# Altium schematic symbol library LPS_.SchLib: 92 symbols
Pins are listed as number, name and electrical type; pins without a type are passive.

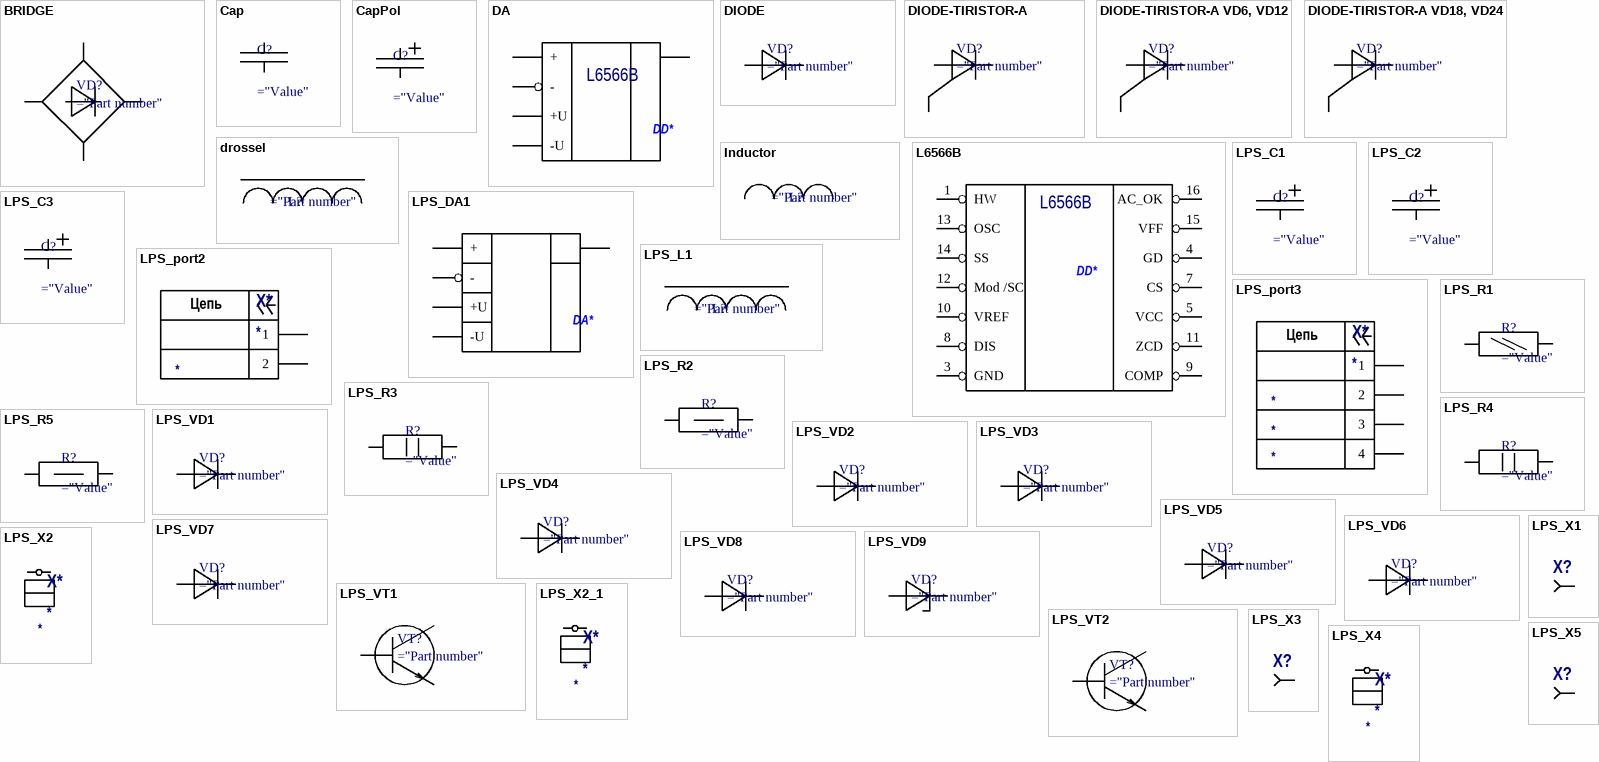
[diagram p0: symbols BRIDGE to LPS_X5]

## BRIDGE
designator VD?
footprint diode_bridge_800V_25A (DFB2580)
pins: A, AC1, AC2, C
1 alternate drawing of the same symbol

## Cap
designator C?
pins: 1, 2

## CapPol
designator C?
pins: 1, 2

## DA
designator DD*  (value not drawn)
footprint SOIC127P600X175-16N
pins: 1 +, 2 -, 3 +U, 4 -U, 5
text: L6566B

## DIODE
designator VD?
pins: A, C

## DIODE-TIRISTOR-A
designator VD?
pins: A, C, UE

## DIODE-TIRISTOR-A VD6, VD12
designator VD?
footprint VD 1.24 V adjustable shunt voltage reference (TS3431AILT - STMicroelectronics)
pins: A, C, UE

## DIODE-TIRISTOR-A VD18, VD24
designator VD?
footprint Shunt Voltage Reference 2.5 (TL431AIDBZT - Texas Instruments)
pins: A, C, UE

## drossel
designator L?
footprint Inductor 1.0mH 2.5 A 10% (PM2120-102K-RC)
pins: 1, 2
1 alternate drawing of the same symbol

## Inductor
designator L?
footprint Inductor 1.0mH 2.5 A 10% (PM2120-102K-RC)
pins: 1, 2
1 alternate drawing of the same symbol

## L6566B
designator DD*  (value not drawn)
footprint SOIC127P600X175-16N
pins: 1 HW, 3 GND, 4 GD, 5 VCC, 7 CS, 8 DIS, 9 COMP, 10 VREF, 11 ZCD, 12 Mod /SC, 13 OSC, 14 SS, 15 VFF, 16 AC_OK

## LPS_C1
designator C?
footprint LPS_C1
pins: 1, 2

## LPS_C2
designator C?
footprint LPS_C2 (27ucappr-3.5_8.5h12)
pins: 1, 2

## LPS_C3
designator C?
footprint LPS_C3 (4.7mcappr-5_13.5h22)
pins: 1, 2

## LPS_DA1
designator DA*  (value not drawn)
footprint LPS_DA1 (КР104УД708)
pins: 3 +U, 4 -, 5 +, 9 -U, 10

## LPS_L1
designator L?
pins: 1, 2
1 alternate drawing of the same symbol

## LPS_port2
designator X*
Comment2: *
footprint connector2_PCV_1000V_76A (PCV 6-16/ 2-G1F-10,16 (PN 1998865))
pins: 1, 2
text: Цепь

## LPS_port3
designator X*
Parameter 2: *; Parameter 1: *; Comment2: *
footprint TerminalBlock_4
pins: 1, 2, 3, 4
text: Цепь

## LPS_R1
designator R?
signal-integrity model Res
footprint LPS_R1 (С2-33Р-0,125)
pins: 1, 2

## LPS_R2
designator R?
signal-integrity model Res
footprint LPS_R2_R5 (S2-33N-05)
pins: 1, 2

## LPS_R3
designator R?
signal-integrity model Res
footprint LPS_R3_R4 (S2-33N-2)
pins: 1, 2

## LPS_R4
designator R?
signal-integrity model Res
footprint LPS_R3_R4 (S2-33N-2)
pins: 1, 2

## LPS_R5
designator R?
signal-integrity model Res
footprint LPS_R2_R5 (S2-33N-05)
pins: 1, 2

## LPS_VD1
designator VD?
footprint LPS_VD1-VD4
pins: 1, 2

## LPS_VD2
designator VD?
footprint LPS_VD1-VD4
pins: 1, 2

## LPS_VD3
designator VD?
footprint LPS_VD1-VD4
pins: 1, 2

## LPS_VD4
designator VD?
footprint LPS_VD1-VD4
pins: 1, 2

## LPS_VD5
designator VD?
footprint LPS_VD5-VD8
pins: 1, 2

## LPS_VD6
designator VD?
footprint LPS_VD5-VD8
pins: 1, 2

## LPS_VD7
designator VD?
footprint LPS_VD5-VD8
pins: 1, 2

## LPS_VD8
designator VD?
footprint LPS_VD5-VD8
pins: 1, 2

## LPS_VD9
designator VD?
footprint LPS_VD9
pins: 1, 2

## LPS_VT1
designator VT?
footprint LPS_VT1
pins: 1, 2, 3

## LPS_VT2
designator VT?
footprint LPS_VT2
pins: 1, 2, 3

## LPS_X1
designator X?  (value not drawn)
pins: 1

## LPS_X2
designator X*
Parameter 1: *
footprint TerminalBlock_2
pins: 1, 2

## LPS_X2_1
designator X*
Parameter 1: *
footprint connector2_PCV_1000V_76A (PCV 6-16/ 2-G1F-10,16 (PN 1998865))
pins: 1, 2, 3, 4

## LPS_X3
designator X?  (value not drawn)
pins: 1

## LPS_X4
designator X*
Parameter 1: *
footprint TerminalBlock_2
pins: 1, 2

## LPS_X5
designator X?  (value not drawn)
pins: 1

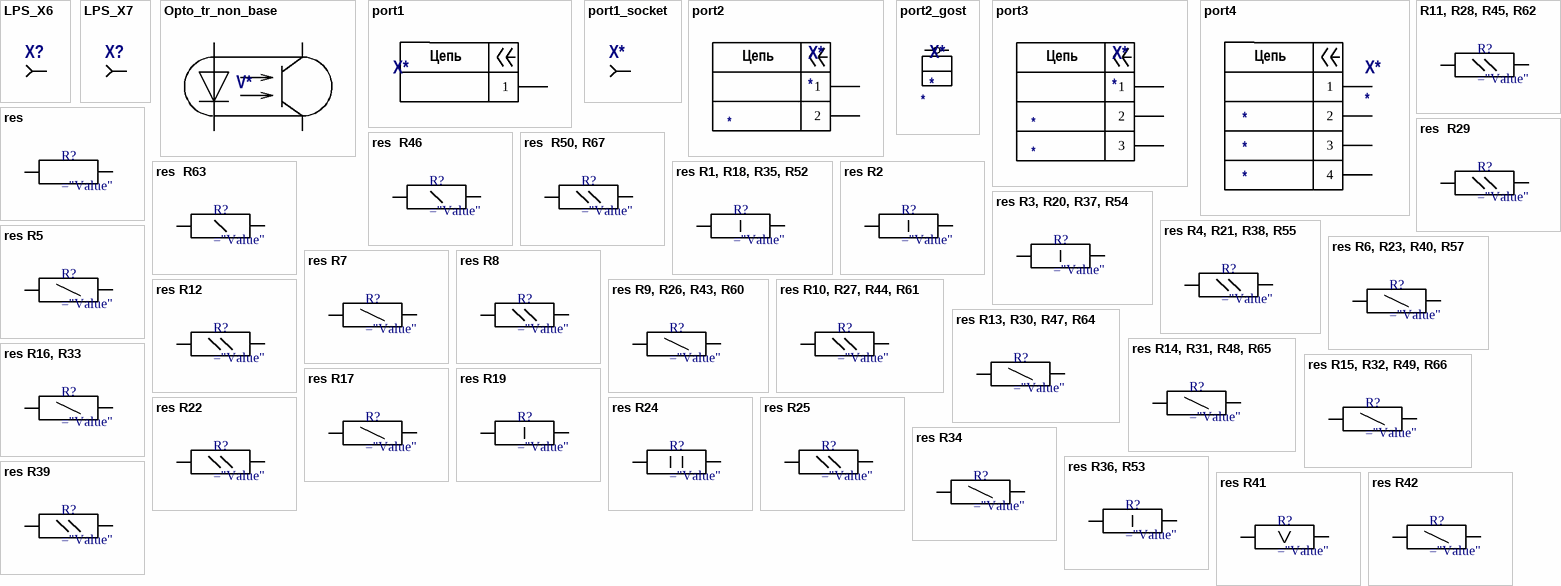
[diagram p1: symbols LPS_X6 to res R42]

## LPS_X6
designator X?  (value not drawn)
pins: 1

## LPS_X7
designator X?  (value not drawn)
pins: 1

## Opto_tr_non_base
designator V*  (value not drawn)
footprint V opt DIP-4 (SFH617A-2X - Isocom)
pins: 0, 1, 3, 4

## port1
designator X*  (value not drawn)
pins: 1
text: Цепь

## port1_socket
designator X*  (value not drawn)
pins: 1

## port2
designator X*
Comment2: *
footprint connector2_PCV_1000V_76A (PCV 6-16/ 2-G1F-10,16 (PN 1998865))
pins: 1, 2
text: Цепь

## port2_gost
designator X*
Parameter 1: *
footprint connector2_PCV_1000V_76A (PCV 6-16/ 2-G1F-10,16 (PN 1998865))

## port3
designator X*
Parameter 1: *; Comment2: *
footprint TerminalBlock_3
pins: 1, 2, 3
text: Цепь

## port4
designator X*
Parameter 3: *; Parameter 2: *; Parameter 1: *
footprint connector7_PCV_1000V_76A (PCV 6-16/ 7-G1-10,16 (PN 1998836))
pins: 1, 7 2, 13 3, 19 4
text: Цепь

## R11, R28, R45, R62
designator R?
signal-integrity model Res
footprint 47kOhm ±5% 0.125W ±200ppm/°C (ERJ6GEYJ473V - Panasonic)
pins: 1, 2

## res
designator R?
signal-integrity model Res
pins: 1, 2

## res  R29
designator R?
signal-integrity model Res
footprint res 5.1 kohm 0.125 W (ERJ6GEYJ512V - Panasonic)
pins: 1, 2

## res  R46
designator R?
signal-integrity model Res
footprint res 150kohm ±1% 0.25W ±100ppm/°C (CRCW1206150KFKEA - Vishay)
pins: 1, 2

## res  R50, R67
designator R?
signal-integrity model Res
footprint res 360K, 5%, 0.125W (ERJ6GEYJ364V - Panasonic)
pins: 1, 2

## res  R63
designator R?
signal-integrity model Res
footprint res 330kohm ±5% 0.25W ±200ppm/K (CRCW1206330KJNEA - Vishay)
pins: 1, 2

## res R1, R18, R35, R52
designator R?
signal-integrity model Res
footprint res 1watt 180Kohms 5% (CRCW2512180KJNEG - Vishay)
pins: 1, 2

## res R2
designator R?
signal-integrity model Res
footprint Res 1W,2.21M,±1% (CR2512-1W-2214FT - Venkel)
pins: 1, 2

## res R3, R20, R37, R54
designator R?
signal-integrity model Res
footprint res 1W,2.7M,±5% (HVCR2512-1W-275JT - Venkel)
pins: 1, 2

## res R4, R21, R38, R55
designator R?
signal-integrity model Res
footprint res SMD 1/8watt 10ohms 5% (CRCW080510R0JNEB - Vishay)
pins: 1, 2

## res R5
designator R?
signal-integrity model Res
footprint res SMD 1/4W 82K OHM 1% (RK73H2ARTTD8202F - KOA Speer)
pins: 1, 2

## res R6, R23, R40, R57
designator R?
signal-integrity model Res
footprint res 11kohm ±1% 0.5W ±200ppm/°C (ERJP6WF1102V - Panasonic)
pins: 1, 2

## res R7
designator R?
signal-integrity model Res
footprint res 1ohm, 0.25%, 0.125W (CRT0805-CY-1R00ELF - Bourns)
pins: 1, 2

## res R8
designator R?
signal-integrity model Res
footprint res SMD 1/8watt 910ohms 1% (CRCW0805910RFKTA - Vishay)
pins: 1, 2

## res R9, R26, R43, R60
designator R?
signal-integrity model Res
footprint res SMD 1/4watt 2.2Kohms 5% (CRCW12062K20JNTA - Vishay)
pins: 1, 2

## res R10, R27, R44, R61
designator R?
signal-integrity model Res
footprint res 1ohm, 0.25%, 0.125W (CRT0805-CY-1R00ELF - Bourns)
pins: 1, 2

## res R12
designator R?
signal-integrity model Res
footprint res SMD 1/4watt 2.2Kohms 5% (CRCW12062K20JNTA - Vishay)
pins: 1, 2

## res R13, R30, R47, R64
designator R?
signal-integrity model Res
footprint res SMD 1/4watt 2.2Kohms 5% (CRCW12062K20JNTA - Vishay)
pins: 1, 2

## res R14, R31, R48, R65
designator R?
signal-integrity model Res
footprint res SMD 1/4Watt 16Kohms 1% (CRCW120616K0FKEAC - Vishay)
pins: 1, 2

## res R15, R32, R49, R66
designator R?
signal-integrity model Res
footprint res SMD 1/4Watt 16Kohms 1% (CRCW120616K0FKEAC - Vishay)
pins: 1, 2

## res R16, R33
designator R?
signal-integrity model Res
footprint res SMD 1/4W 3.9K OHM 1% (RK73H2ALTD3901F - KOA Speer)
pins: 1, 2

## res R17
designator R?
signal-integrity model Res
footprint res SMD 1/4watt 2.2Kohms 5% (CRCW12062K20JNTA - Vishay)
pins: 1, 2

## res R19
designator R?
signal-integrity model Res
footprint Res 1W,1.82M,±1% (CR2512-1W-1824FT - Venkel)
pins: 1, 2

## res R22
designator R?
signal-integrity model Res
footprint res SMD 1/8watt 910ohms 1% (CRCW0805910RFKTA - Vishay)
pins: 1, 2

## res R24
designator R?
signal-integrity model Res
footprint res 2 W 0.13 ohm 5 % (ERJD1CJR130U - Panasonic)
pins: 1, 2

## res R25
designator R?
signal-integrity model Res
footprint res SMD 110 ohm, 150 V, Thin Film, 125 mW (MCTC0525B1100T5G - MULTICOMP)
pins: 1, 2

## res R34
designator R?
signal-integrity model Res
footprint res SMD 1/4watt 2.2Kohms 5% (CRCW12062K20JNTA - Vishay)
pins: 1, 2

## res R36, R53
designator R?
signal-integrity model Res
footprint Res 1W,2M,±1% (HVCR2512-1W-2004FT - Venkel)
pins: 1, 2

## res R39
designator R?
signal-integrity model Res
footprint res SMD 110 ohm, 150 V, Thin Film, 125 mW (MCTC0525B1100T5G - MULTICOMP)
pins: 1, 2

## res R41
designator R?
signal-integrity model Res
footprint res SMD 62mOhm .5% 3W +/-75 ppm (SLN3TTED62L0D - KOA Speer)
pins: 1, 2

## res R42
designator R?
signal-integrity model Res
footprint res 150kohm ±1% 0.25W ±100ppm/°C (CRCW1206150KFKEA - Vishay)
pins: 1, 2

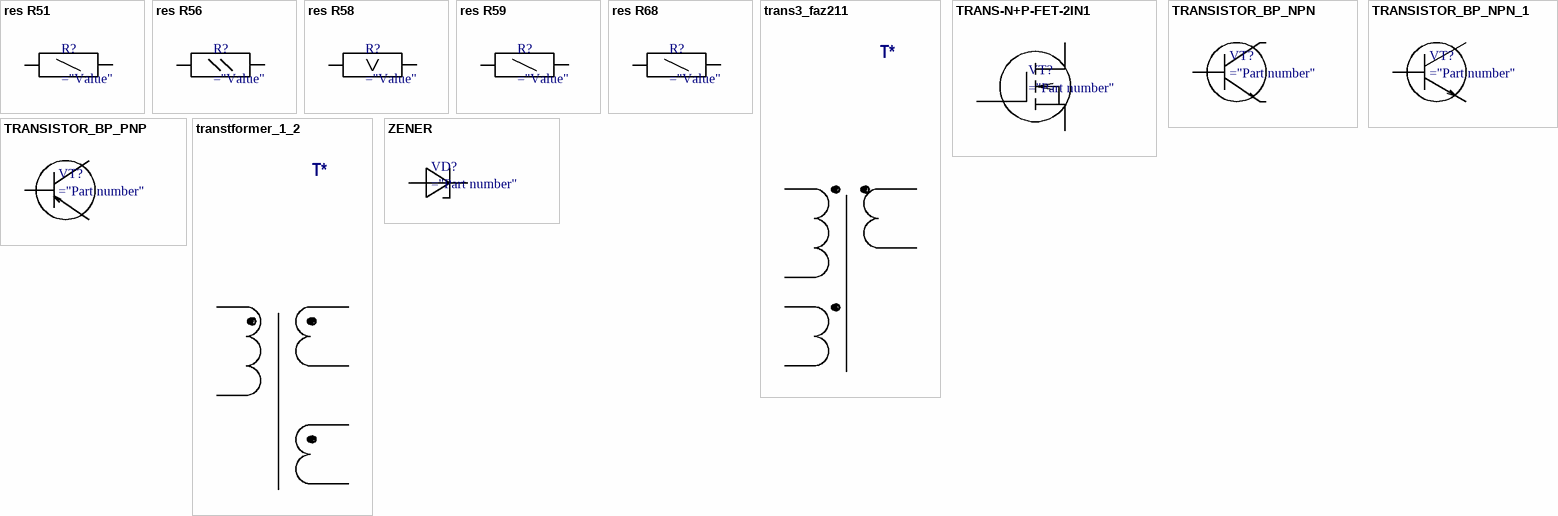
[diagram p2: symbols res R51 to ZENER]

## res R51
designator R?
signal-integrity model Res
footprint res SMD 1/4Watt 16Kohms 1% (CRCW120616K0FKEAC - Vishay)
pins: 1, 2

## res R56
designator R?
signal-integrity model Res
footprint res SMD 1210 4.3ohm 1% (KTR25JZPF4R30 - ROHM Semiconductor)
pins: 1, 2

## res R58
designator R?
signal-integrity model Res
footprint res SMD 62mOhm .5% 3W +/-75 ppm (SLN3TTED62L0D - KOA Speer)
pins: 1, 2

## res R59
designator R?
signal-integrity model Res
footprint res 330kohm ±5% 0.25W ±200ppm/K (CRCW1206330KJNEA - Vishay)
pins: 1, 2

## res R68
designator R?
signal-integrity model Res
footprint res SMD 1/4Watt 16Kohms 1% (CRCW120616K0FKEAC - Vishay)
pins: 1, 2

## trans3_faz211
designator T*  (value not drawn)
footprint EE25-13-7_6473 (THT, Body 29.21x27.94mm, 10Pins, Pitch 5.08mm)
pins: 1, 2, 3, 4, 5, 6

## TRANS-N+P-FET-2IN1
designator VT?
footprint N-Channel MOSFET Transistor, 17 A, 500 V (STF23NM50N)
pins: D1, G1, S1

## TRANSISTOR_BP_NPN
designator VT?
footprint N-Channel MOSFET Transistor, 17 A, 500 V (STF23NM50N)
pins: 1, 2, 3

## TRANSISTOR_BP_NPN_1
designator VT?
footprint N-Channel MOSFET Transistor, 17 A, 500 V (STF23NM50N)
pins: 1, 2, 3

## TRANSISTOR_BP_PNP
designator VT?
footprint N-Channel MOSFET Transistor, 17 A, 500 V (STF23NM50N)
pins: 1, 2, 3

## transtformer_1_2
designator T*  (value not drawn)
footprint EE25-13-7_6473 (THT, Body 29.21x27.94mm, 10Pins, Pitch 5.08mm)
pins: 1, 2, 3, 4, 5, 6

## ZENER
designator VD?
pins: A, C